# Altium schematic symbol library ON Semi Comm Switching Matrix.SchLib: 2 symbols
Pins are listed as number, name and electrical type; pins without a type are passive.

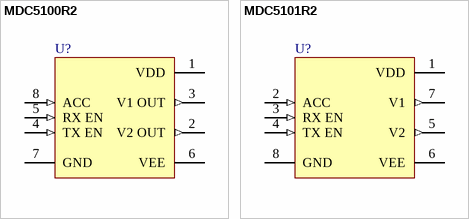
[diagram p0: symbols MDC5100R2 to MDC5101R2]

## MDC5100R2
designator U?
Antenna Switch Controller; Published: 15-Apr-2002; LatestRevisionDate: 12-Dec-2006; LatestRevisionNote: IPC-7351 Footprint Added.; DatasheetVersion: 1999; PackageVersion: Oct-1999; PackageReference: 846A-02; Publisher: Altium Limited; PackageDescription: 8-Pin Thin Small Outline Package 0.65 mm Pitch; ComponentLink1Description: Manufacturer Link; ComponentLink1URL: http://www.onsemi.com/
footprint 846A-02_N (TSOP, 8-Leads, Body 3x3mm, Pitch 0.65mm, IPC Medium Density)
footprint 846A-02_L (TSOP, 8-Leads, Body 3x3mm, Pitch 0.65mm, IPC High Density)
footprint 846A-02_M (TSOP, 8-Leads, Body 3x3mm, Pitch 0.65mm, IPC Low Density)
pins: 1 VDD (power), 2 V2 OUT (out), 3 V1 OUT (out), 4 TX EN (in), 5 RX EN (in), 6 VEE (power), 7 GND (power), 8 ACC (in)

## MDC5101R2
designator U?
Antenna Switch Controller; Published: 15-Apr-2002; LatestRevisionDate: 12-Dec-2006; LatestRevisionNote: IPC-7351 Footprint Added.; DatasheetVersion: 1999; PackageVersion: Oct-1999; PackageReference: 846A-02; Publisher: Altium Limited; PackageDescription: 8-Pin Thin Small Outline Package 0.65 mm Pitch; ComponentLink1Description: Manufacturer Link; ComponentLink1URL: http://www.onsemi.com/
footprint 846A-02_N (TSOP, 8-Leads, Body 3x3mm, Pitch 0.65mm, IPC Medium Density)
footprint 846A-02_L (TSOP, 8-Leads, Body 3x3mm, Pitch 0.65mm, IPC High Density)
footprint 846A-02_M (TSOP, 8-Leads, Body 3x3mm, Pitch 0.65mm, IPC Low Density)
pins: 1 VDD (power), 2 ACC (in), 3 RX EN (in), 4 TX EN (in), 5 V2 (out), 6 VEE (power), 7 V1 (out), 8 GND (power)